# Altium footprint library Zilog Footprints.PcbLib: 33 footprints (part 2 of 3)
Each footprint in its own frame and in the unit in brackets; x right, y up, seen from the top. Pads: shape width x height; smd on the part's side, far side on the other; paste and mask are expansions set on the pad; w line width, h text height; cw(c..) or ccw(c..) is an arc to the next point about the centre after c.
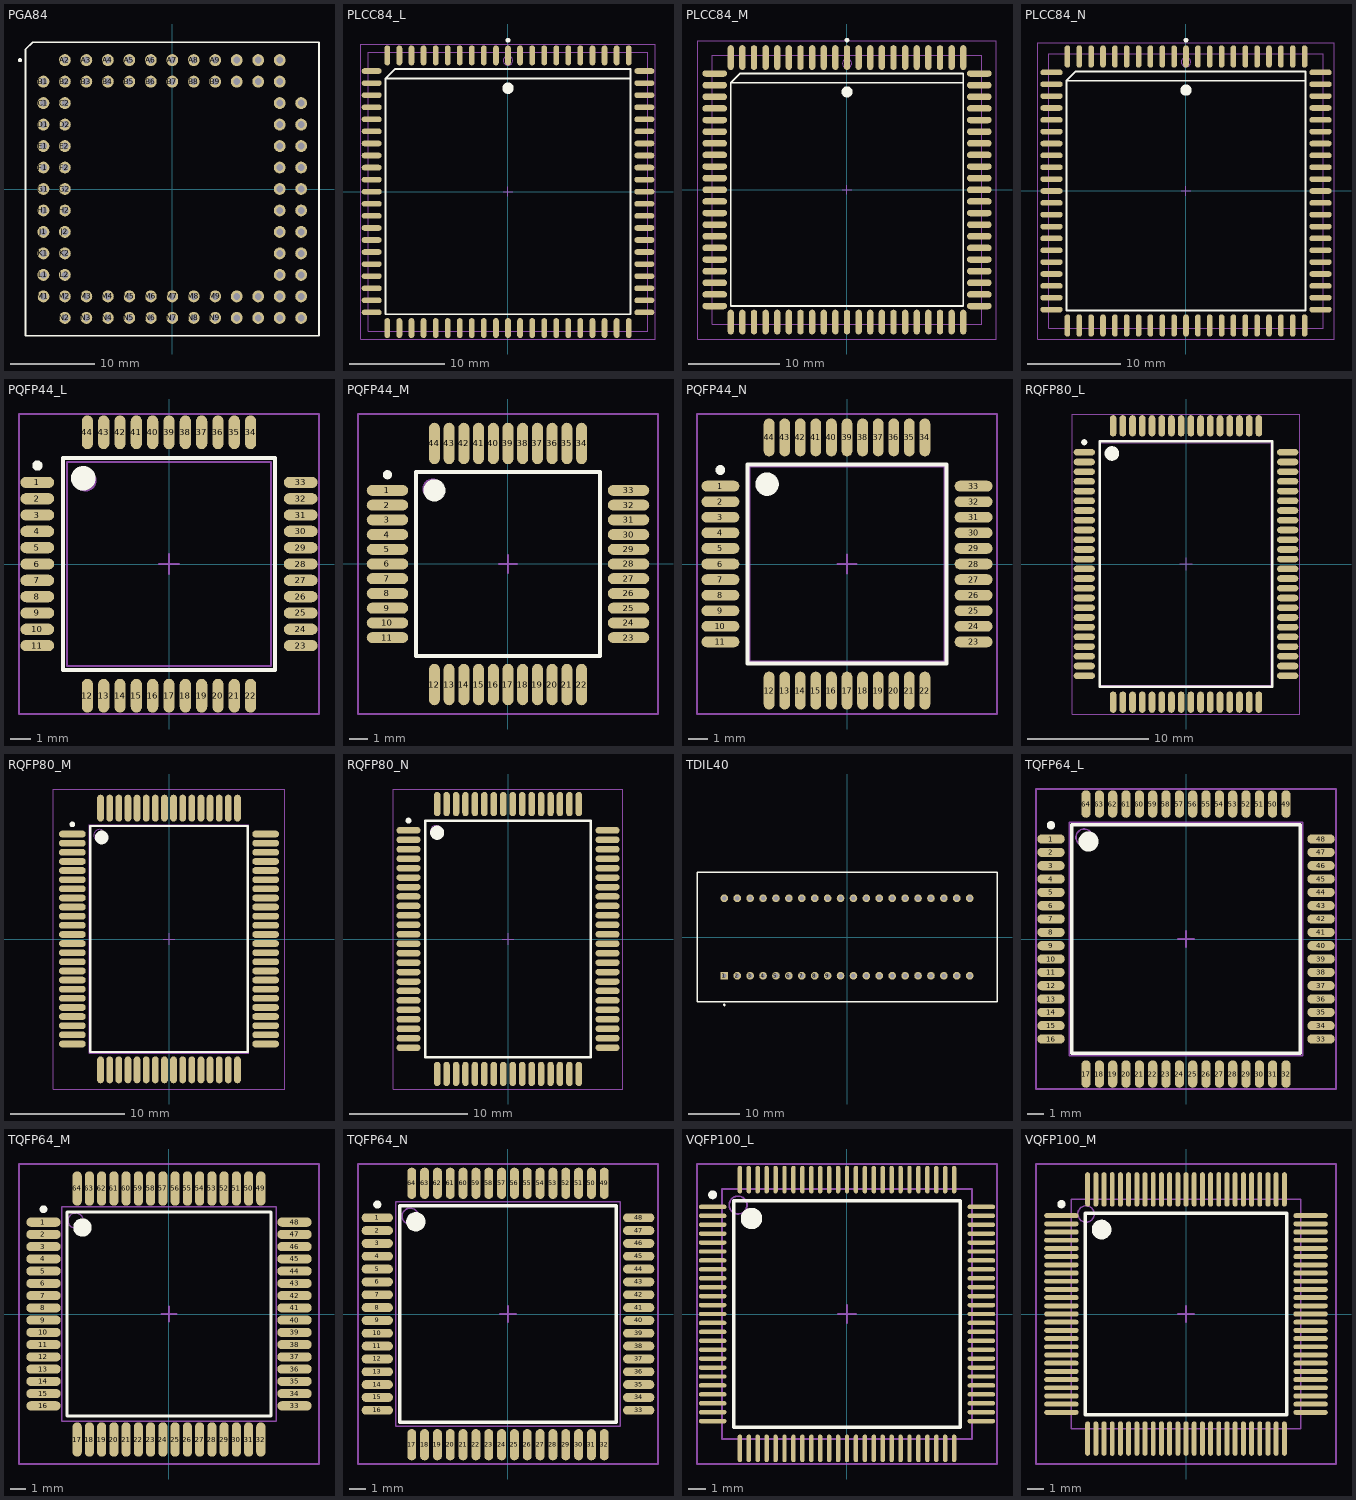
[diagram p1: the footprints below, top view; thin cyan lines are the x and y axes]

## PGA84 [mm] "84-Pin Pin Grid Array 2.54 mm Pitch"
height 3.64
pads (84):
  round 1.4 hole 0.8: A2(-12.7,15.24) A3(-10.16,15.24) A4(-7.62,15.24) A5(-5.08,15.24) A6(-2.54,15.24) A7(0,15.24) A8(2.54,15.24) A9(5.08,15.24) A10(7.62,15.24) A11(10.16,15.24) A12(12.7,15.24) B1(-15.24,12.7) B2(-12.7,12.7) B3(-10.16,12.7) B4(-7.62,12.7) B5(-5.08,12.7) B6(-2.54,12.7) B7(0,12.7) B8(2.54,12.7) B9(5.08,12.7) B10(7.62,12.7) B11(10.16,12.7) B12(12.7,12.7) C1(-15.24,10.16) C2(-12.7,10.16) C12(12.7,10.16) C13(15.24,10.16) D1(-15.24,7.62) D2(-12.7,7.62) D12(12.7,7.62) D13(15.24,7.62) E1(-15.24,5.08) E2(-12.7,5.08) E12(12.7,5.08) E13(15.24,5.08) F1(-15.24,2.54) F2(-12.7,2.54) F12(12.7,2.54) F13(15.24,2.54) G1(-15.24,0) G2(-12.7,0) G12(12.7,0) G13(15.24,0) H1(-15.24,-2.54) H2(-12.7,-2.54) H12(12.7,-2.54) H13(15.24,-2.54) J1(-15.24,-5.08) J2(-12.7,-5.08) J12(12.7,-5.08) J13(15.24,-5.08) K1(-15.24,-7.62) K2(-12.7,-7.62) K12(12.7,-7.62) K13(15.24,-7.62) L1(-15.24,-10.16) L2(-12.7,-10.16) L12(12.7,-10.16) L13(15.24,-10.16) M1(-15.24,-12.7) M2(-12.7,-12.7) M3(-10.16,-12.7) M4(-7.62,-12.7) M5(-5.08,-12.7) M6(-2.54,-12.7) M7(0,-12.7) M8(2.54,-12.7) M9(5.08,-12.7) M10(7.62,-12.7) M11(10.16,-12.7) M12(12.7,-12.7) M13(15.24,-12.7) N2(-12.7,-15.24) N3(-10.16,-15.24) N4(-7.62,-15.24) N5(-5.08,-15.24) N6(-2.54,-15.24) N7(0,-15.24) N8(2.54,-15.24) N9(5.08,-15.24) N10(7.62,-15.24) N11(10.16,-15.24) N12(12.7,-15.24) N13(15.24,-15.24)
Top Overlay:
  circle w0.25: c-18,15.24 r0.125
  lines w0.2: -17.35,-17.35 17.35,-17.35 17.35,17.35 -16.51,17.35 -17.35,16.51 -17.35,-17.35

## PLCC84_L [mm] "84-Pin Leaded Chip Carrier 1.27 mm Pitch, IPC High Density"
height 4.57
pads (84):
  oval 0.6x2.1 smd: 1(0,14.35) 2(-1.27,14.35) 3(-2.54,14.35) 4(-3.81,14.35) 5(-5.08,14.35) 6(-6.35,14.35) 7(-7.62,14.35) 8(-8.89,14.35) 9(-10.16,14.35) 10(-11.43,14.35) 11(-12.7,14.35) 33(-12.7,-14.35) 34(-11.43,-14.35) 35(-10.16,-14.35) 36(-8.89,-14.35) 37(-7.62,-14.35) 38(-6.35,-14.35) 39(-5.08,-14.35) 40(-3.81,-14.35) 41(-2.54,-14.35) 42(-1.27,-14.35) 43(0,-14.35) 44(1.27,-14.35) 45(2.54,-14.35) 46(3.81,-14.35) 47(5.08,-14.35) 48(6.35,-14.35) 49(7.62,-14.35) 50(8.89,-14.35) 51(10.16,-14.35) 52(11.43,-14.35) 53(12.7,-14.35) 75(12.7,14.35) 76(11.43,14.35) 77(10.16,14.35) 78(8.89,14.35) 79(7.62,14.35) 80(6.35,14.35) 81(5.08,14.35) 82(3.81,14.35) 83(2.54,14.35) 84(1.27,14.35)
  oval 2.1x0.6 smd: 12(-14.35,12.7) 13(-14.35,11.43) 14(-14.35,10.16) 15(-14.35,8.89) 16(-14.35,7.62) 17(-14.35,6.35) 18(-14.35,5.08) 19(-14.35,3.81) 20(-14.35,2.54) 21(-14.35,1.27) 22(-14.35,0) 23(-14.35,-1.27) 24(-14.35,-2.54) 25(-14.35,-3.81) 26(-14.35,-5.08) 27(-14.35,-6.35) 28(-14.35,-7.62) 29(-14.35,-8.89) 30(-14.35,-10.16) 31(-14.35,-11.43) 32(-14.35,-12.7) 54(14.35,-12.7) 55(14.35,-11.43) 56(14.35,-10.16) 57(14.35,-8.89) 58(14.35,-7.62) 59(14.35,-6.35) 60(14.35,-5.08) 61(14.35,-3.81) 62(14.35,-2.54) 63(14.35,-1.27) 64(14.35,0) 65(14.35,1.27) 66(14.35,2.54) 67(14.35,3.81) 68(14.35,5.08) 69(14.35,6.35) 70(14.35,7.62) 71(14.35,8.89) 72(14.35,10.16) 73(14.35,11.43) 74(14.35,12.7)
Top Overlay:
  circle w0.25: c0,15.95 r0.125
  circle w0.6: c0,10.9 r0.3
  lines w0.2: 12.9,11.9 -12.9,11.9 ; -12.9,11.9 -11.9,12.9 12.9,12.9 12.9,-12.9 -12.9,-12.9 -12.9,11.9
Mechanical 13:
  circle w0.1: c0,13.805 r0.5
  lines w0.1: -14.705,-14.705 -14.705,14.705 14.705,14.705 14.705,-14.705 -14.705,-14.705
Mechanical 15:
  lines w0.1: -0.5,0 0.5,0 ; 0,-0.5 0,0.5 ; -15.5,-15.5 -15.5,15.5 15.5,15.5 15.5,-15.5 -15.5,-15.5
3D body: height 4.57, standoff 0, extent -14.705,-14.705 14.705,14.705

## PLCC84_M [mm] "84-Pin Leaded Chip Carrier 1.27 mm Pitch, IPC Low Density"
height 4.57
pads (84):
  oval 0.7x2.7 smd: 1(0,14.45) 2(-1.27,14.45) 3(-2.54,14.45) 4(-3.81,14.45) 5(-5.08,14.45) 6(-6.35,14.45) 7(-7.62,14.45) 8(-8.89,14.45) 9(-10.16,14.45) 10(-11.43,14.45) 11(-12.7,14.45) 33(-12.7,-14.45) 34(-11.43,-14.45) 35(-10.16,-14.45) 36(-8.89,-14.45) 37(-7.62,-14.45) 38(-6.35,-14.45) 39(-5.08,-14.45) 40(-3.81,-14.45) 41(-2.54,-14.45) 42(-1.27,-14.45) 43(0,-14.45) 44(1.27,-14.45) 45(2.54,-14.45) 46(3.81,-14.45) 47(5.08,-14.45) 48(6.35,-14.45) 49(7.62,-14.45) 50(8.89,-14.45) 51(10.16,-14.45) 52(11.43,-14.45) 53(12.7,-14.45) 75(12.7,14.45) 76(11.43,14.45) 77(10.16,14.45) 78(8.89,14.45) 79(7.62,14.45) 80(6.35,14.45) 81(5.08,14.45) 82(3.81,14.45) 83(2.54,14.45) 84(1.27,14.45)
  oval 2.7x0.7 smd: 12(-14.45,12.7) 13(-14.45,11.43) 14(-14.45,10.16) 15(-14.45,8.89) 16(-14.45,7.62) 17(-14.45,6.35) 18(-14.45,5.08) 19(-14.45,3.81) 20(-14.45,2.54) 21(-14.45,1.27) 22(-14.45,0) 23(-14.45,-1.27) 24(-14.45,-2.54) 25(-14.45,-3.81) 26(-14.45,-5.08) 27(-14.45,-6.35) 28(-14.45,-7.62) 29(-14.45,-8.89) 30(-14.45,-10.16) 31(-14.45,-11.43) 32(-14.45,-12.7) 54(14.45,-12.7) 55(14.45,-11.43) 56(14.45,-10.16) 57(14.45,-8.89) 58(14.45,-7.62) 59(14.45,-6.35) 60(14.45,-5.08) 61(14.45,-3.81) 62(14.45,-2.54) 63(14.45,-1.27) 64(14.45,0) 65(14.45,1.27) 66(14.45,2.54) 67(14.45,3.81) 68(14.45,5.08) 69(14.45,6.35) 70(14.45,7.62) 71(14.45,8.89) 72(14.45,10.16) 73(14.45,11.43) 74(14.45,12.7)
Top Overlay:
  circle w0.25: c0,16.35 r0.125
  circle w0.6: c0,10.7 r0.3
  lines w0.2: 12.7,11.7 -12.7,11.7 ; -12.7,11.7 -11.7,12.7 12.7,12.7 12.7,-12.7 -12.7,-12.7 -12.7,11.7
Mechanical 13:
  circle w0.1: c0,13.805 r0.5
  lines w0.1: -14.705,-14.705 -14.705,14.705 14.705,14.705 14.705,-14.705 -14.705,-14.705
Mechanical 15:
  lines w0.1: -0.5,0 0.5,0 ; 0,-0.5 0,0.5 ; -16.3,-16.3 -16.3,16.3 16.3,16.3 16.3,-16.3 -16.3,-16.3
3D body: height 4.57, standoff 0, extent -14.705,-14.705 14.705,14.705

## PLCC84_N [mm] "84-Pin Leaded Chip Carrier 1.27 mm Pitch, IPC Medium Density"
height 4.57
pads (84):
  oval 0.6x2.4 smd: 1(0,14.4) 2(-1.27,14.4) 3(-2.54,14.4) 4(-3.81,14.4) 5(-5.08,14.4) 6(-6.35,14.4) 7(-7.62,14.4) 8(-8.89,14.4) 9(-10.16,14.4) 10(-11.43,14.4) 11(-12.7,14.4) 33(-12.7,-14.4) 34(-11.43,-14.4) 35(-10.16,-14.4) 36(-8.89,-14.4) 37(-7.62,-14.4) 38(-6.35,-14.4) 39(-5.08,-14.4) 40(-3.81,-14.4) 41(-2.54,-14.4) 42(-1.27,-14.4) 43(0,-14.4) 44(1.27,-14.4) 45(2.54,-14.4) 46(3.81,-14.4) 47(5.08,-14.4) 48(6.35,-14.4) 49(7.62,-14.4) 50(8.89,-14.4) 51(10.16,-14.4) 52(11.43,-14.4) 53(12.7,-14.4) 75(12.7,14.4) 76(11.43,14.4) 77(10.16,14.4) 78(8.89,14.4) 79(7.62,14.4) 80(6.35,14.4) 81(5.08,14.4) 82(3.81,14.4) 83(2.54,14.4) 84(1.27,14.4)
  oval 2.4x0.6 smd: 12(-14.4,12.7) 13(-14.4,11.43) 14(-14.4,10.16) 15(-14.4,8.89) 16(-14.4,7.62) 17(-14.4,6.35) 18(-14.4,5.08) 19(-14.4,3.81) 20(-14.4,2.54) 21(-14.4,1.27) 22(-14.4,0) 23(-14.4,-1.27) 24(-14.4,-2.54) 25(-14.4,-3.81) 26(-14.4,-5.08) 27(-14.4,-6.35) 28(-14.4,-7.62) 29(-14.4,-8.89) 30(-14.4,-10.16) 31(-14.4,-11.43) 32(-14.4,-12.7) 54(14.4,-12.7) 55(14.4,-11.43) 56(14.4,-10.16) 57(14.4,-8.89) 58(14.4,-7.62) 59(14.4,-6.35) 60(14.4,-5.08) 61(14.4,-3.81) 62(14.4,-2.54) 63(14.4,-1.27) 64(14.4,0) 65(14.4,1.27) 66(14.4,2.54) 67(14.4,3.81) 68(14.4,5.08) 69(14.4,6.35) 70(14.4,7.62) 71(14.4,8.89) 72(14.4,10.16) 73(14.4,11.43) 74(14.4,12.7)
Top Overlay:
  circle w0.25: c0,16.15 r0.125
  circle w0.6: c0,10.8 r0.3
  lines w0.2: 12.8,11.8 -12.8,11.8 ; -12.8,11.8 -11.8,12.8 12.8,12.8 12.8,-12.8 -12.8,-12.8 -12.8,11.8
Mechanical 13:
  circle w0.1: c0,13.805 r0.5
  lines w0.1: -14.705,-14.705 -14.705,14.705 14.705,14.705 14.705,-14.705 -14.705,-14.705
Mechanical 15:
  lines w0.1: -0.5,0 0.5,0 ; 0,-0.5 0,0.5 ; -15.85,-15.85 -15.85,15.85 15.85,15.85 15.85,-15.85 -15.85,-15.85
3D body: height 4.57, standoff 0, extent -14.705,-14.705 14.705,14.705

## PQFP44_L [mm] "44-Pin Quad Flat Pack 0.8 mm Pitch, IPC High Density"
height 2.5
pads (44):
  oval 1.65x0.55 smd: 1(-6.45,4) 2(-6.45,3.2) 3(-6.45,2.4) 4(-6.45,1.6) 5(-6.45,0.8) 6(-6.45,0) 7(-6.45,-0.8) 8(-6.45,-1.6) 9(-6.45,-2.4) 10(-6.45,-3.2) 11(-6.45,-4) 23(6.45,-4) 24(6.45,-3.2) 25(6.45,-2.4) 26(6.45,-1.6) 27(6.45,-0.8) 28(6.45,0) 29(6.45,0.8) 30(6.45,1.6) 31(6.45,2.4) 32(6.45,3.2) 33(6.45,4)
  oval 0.55x1.65 smd: 12(-4,-6.45) 13(-3.2,-6.45) 14(-2.4,-6.45) 15(-1.6,-6.45) 16(-0.8,-6.45) 17(0,-6.45) 18(0.8,-6.45) 19(1.6,-6.45) 20(2.4,-6.45) 21(3.2,-6.45) 22(4,-6.45) 34(4,6.45) 35(3.2,6.45) 36(2.4,6.45) 37(1.6,6.45) 38(0.8,6.45) 39(0,6.45) 40(-0.8,6.45) 41(-1.6,6.45) 42(-2.4,6.45) 43(-3.2,6.45) 44(-4,6.45)
Top Overlay:
  circle w0.6: c-4.2,4.2 r0.3
  circle w0.25: c-6.45,4.825 r0.125
  lines w0.2: -5.2,-5.2 5.2,-5.2 5.2,5.2 -5.2,5.2 -5.2,-5.2
Mechanical 13:
  circle w0.1: c-4.1,4.1 r0.5
  lines w0.1: -5,-5 5,-5 5,5 -5,5 -5,-5
Mechanical 15:
  lines w0.1: -0.5,0 0.5,0 ; 0,-0.5 0,0.5 ; -7.35,-7.35 7.35,-7.35 7.35,7.35 -7.35,7.35 -7.35,-7.35
3D body: height 2.5, standoff 0, extent -5,-5 5,5

## PQFP44_M [mm] "44-Pin Quad Flat Pack 0.8 mm Pitch, IPC Low Density"
height 2.5
pads (44):
  oval 2.25x0.6 smd: 1(-6.55,4) 2(-6.55,3.2) 3(-6.55,2.4) 4(-6.55,1.6) 5(-6.55,0.8) 6(-6.55,0) 7(-6.55,-0.8) 8(-6.55,-1.6) 9(-6.55,-2.4) 10(-6.55,-3.2) 11(-6.55,-4) 23(6.55,-4) 24(6.55,-3.2) 25(6.55,-2.4) 26(6.55,-1.6) 27(6.55,-0.8) 28(6.55,0) 29(6.55,0.8) 30(6.55,1.6) 31(6.55,2.4) 32(6.55,3.2) 33(6.55,4)
  oval 0.6x2.25 smd: 12(-4,-6.55) 13(-3.2,-6.55) 14(-2.4,-6.55) 15(-1.6,-6.55) 16(-0.8,-6.55) 17(0,-6.55) 18(0.8,-6.55) 19(1.6,-6.55) 20(2.4,-6.55) 21(3.2,-6.55) 22(4,-6.55) 34(4,6.55) 35(3.2,6.55) 36(2.4,6.55) 37(1.6,6.55) 38(0.8,6.55) 39(0,6.55) 40(-0.8,6.55) 41(-1.6,6.55) 42(-2.4,6.55) 43(-3.2,6.55) 44(-4,6.55)
Top Overlay:
  circle w0.6: c-4,4 r0.3
  circle w0.25: c-6.55,4.85 r0.125
  lines w0.2: -5,-5 5,-5 5,5 -5,5 -5,-5
Mechanical 13:
  circle w0.1: c-4.1,4.1 r0.5
  lines w0.1: -5,-5 5,-5 5,5 -5,5 -5,-5
Mechanical 15:
  lines w0.1: -0.5,0 0.5,0 ; 0,-0.5 0,0.5 ; -8.15,-8.15 8.15,-8.15 8.15,8.15 -8.15,8.15 -8.15,-8.15
3D body: height 2.5, standoff 0, extent -5,-5 5,5

## PQFP44_N [mm] "44-Pin Quad Flat Pack 0.8 mm Pitch, IPC Medium Density"
height 2.5
pads (44):
  oval 1.95x0.55 smd: 1(-6.5,4) 2(-6.5,3.2) 3(-6.5,2.4) 4(-6.5,1.6) 5(-6.5,0.8) 6(-6.5,0) 7(-6.5,-0.8) 8(-6.5,-1.6) 9(-6.5,-2.4) 10(-6.5,-3.2) 11(-6.5,-4) 23(6.5,-4) 24(6.5,-3.2) 25(6.5,-2.4) 26(6.5,-1.6) 27(6.5,-0.8) 28(6.5,0) 29(6.5,0.8) 30(6.5,1.6) 31(6.5,2.4) 32(6.5,3.2) 33(6.5,4)
  oval 0.55x1.95 smd: 12(-4,-6.5) 13(-3.2,-6.5) 14(-2.4,-6.5) 15(-1.6,-6.5) 16(-0.8,-6.5) 17(0,-6.5) 18(0.8,-6.5) 19(1.6,-6.5) 20(2.4,-6.5) 21(3.2,-6.5) 22(4,-6.5) 34(4,6.5) 35(3.2,6.5) 36(2.4,6.5) 37(1.6,6.5) 38(0.8,6.5) 39(0,6.5) 40(-0.8,6.5) 41(-1.6,6.5) 42(-2.4,6.5) 43(-3.2,6.5) 44(-4,6.5)
Top Overlay:
  circle w0.6: c-4.1,4.1 r0.3
  circle w0.25: c-6.5,4.825 r0.125
  lines w0.2: -5.1,-5.1 5.1,-5.1 5.1,5.1 -5.1,5.1 -5.1,-5.1
Mechanical 13:
  circle w0.1: c-4.1,4.1 r0.5
  lines w0.1: -5,-5 5,-5 5,5 -5,5 -5,-5
Mechanical 15:
  lines w0.1: -0.5,0 0.5,0 ; 0,-0.5 0,0.5 ; -7.7,-7.7 7.7,-7.7 7.7,7.7 -7.7,7.7 -7.7,-7.7
3D body: height 2.5, standoff 0, extent -5,-5 5,5

## RQFP80_L [mm] "80-Pin Quad Flat Pack Rectangular 0.8 mm Pitch, IPC High Density"
height 3.05
pads (80):
  oval 1.75x0.55 smd: 1(-8.375,9.2) 2(-8.375,8.4) 3(-8.375,7.6) 4(-8.375,6.8) 5(-8.375,6) 6(-8.375,5.2) 7(-8.375,4.4) 8(-8.375,3.6) 9(-8.375,2.8) 10(-8.375,2) 11(-8.375,1.2) 12(-8.375,0.4) 13(-8.375,-0.4) 14(-8.375,-1.2) 15(-8.375,-2) 16(-8.375,-2.8) 17(-8.375,-3.6) 18(-8.375,-4.4) 19(-8.375,-5.2) 20(-8.375,-6) 21(-8.375,-6.8) 22(-8.375,-7.6) 23(-8.375,-8.4) 24(-8.375,-9.2) 41(8.375,-9.2) 42(8.375,-8.4) 43(8.375,-7.6) 44(8.375,-6.8) 45(8.375,-6) 46(8.375,-5.2) 47(8.375,-4.4) 48(8.375,-3.6) 49(8.375,-2.8) 50(8.375,-2) 51(8.375,-1.2) 52(8.375,-0.4) 53(8.375,0.4) 54(8.375,1.2) 55(8.375,2) 56(8.375,2.8) 57(8.375,3.6) 58(8.375,4.4) 59(8.375,5.2) 60(8.375,6) 61(8.375,6.8) 62(8.375,7.6) 63(8.375,8.4) 64(8.375,9.2)
  oval 0.55x1.75 smd: 25(-6,-11.375) 26(-5.2,-11.375) 27(-4.4,-11.375) 28(-3.6,-11.375) 29(-2.8,-11.375) 30(-2,-11.375) 31(-1.2,-11.375) 32(-0.4,-11.375) 33(0.4,-11.375) 34(1.2,-11.375) 35(2,-11.375) 36(2.8,-11.375) 37(3.6,-11.375) 38(4.4,-11.375) 39(5.2,-11.375) 40(6,-11.375) 65(6,11.375) 66(5.2,11.375) 67(4.4,11.375) 68(3.6,11.375) 69(2.8,11.375) 70(2,11.375) 71(1.2,11.375) 72(0.4,11.375) 73(-0.4,11.375) 74(-1.2,11.375) 75(-2,11.375) 76(-2.8,11.375) 77(-3.6,11.375) 78(-4.4,11.375) 79(-5.2,11.375) 80(-6,11.375)
Top Overlay:
  circle w0.6: c-6.1,9.1 r0.3
  circle w0.25: c-8.375,10.025 r0.125
  lines w0.2: -7.1,-10.1 7.1,-10.1 7.1,10.1 -7.1,10.1 -7.1,-10.1
Mechanical 13:
  circle w0.1: c-6.1,9.1 r0.5
  lines w0.1: -7,-10 7,-10 7,10 -7,10 -7,-10
Mechanical 15:
  lines w0.1: -0.5,0 0.5,0 ; 0,-0.5 0,0.5 ; -9.35,-12.35 9.35,-12.35 9.35,12.35 -9.35,12.35 -9.35,-12.35
3D body: height 3.05, standoff 0, extent -7,-10 7,10

## RQFP80_M [mm] "80-Pin Quad Flat Pack Rectangular 0.8 mm Pitch, IPC Low Density"
height 3.05
pads (80):
  oval 2.35x0.6 smd: 1(-8.475,9.2) 2(-8.475,8.4) 3(-8.475,7.6) 4(-8.475,6.8) 5(-8.475,6) 6(-8.475,5.2) 7(-8.475,4.4) 8(-8.475,3.6) 9(-8.475,2.8) 10(-8.475,2) 11(-8.475,1.2) 12(-8.475,0.4) 13(-8.475,-0.4) 14(-8.475,-1.2) 15(-8.475,-2) 16(-8.475,-2.8) 17(-8.475,-3.6) 18(-8.475,-4.4) 19(-8.475,-5.2) 20(-8.475,-6) 21(-8.475,-6.8) 22(-8.475,-7.6) 23(-8.475,-8.4) 24(-8.475,-9.2) 41(8.475,-9.2) 42(8.475,-8.4) 43(8.475,-7.6) 44(8.475,-6.8) 45(8.475,-6) 46(8.475,-5.2) 47(8.475,-4.4) 48(8.475,-3.6) 49(8.475,-2.8) 50(8.475,-2) 51(8.475,-1.2) 52(8.475,-0.4) 53(8.475,0.4) 54(8.475,1.2) 55(8.475,2) 56(8.475,2.8) 57(8.475,3.6) 58(8.475,4.4) 59(8.475,5.2) 60(8.475,6) 61(8.475,6.8) 62(8.475,7.6) 63(8.475,8.4) 64(8.475,9.2)
  oval 0.6x2.35 smd: 25(-6,-11.475) 26(-5.2,-11.475) 27(-4.4,-11.475) 28(-3.6,-11.475) 29(-2.8,-11.475) 30(-2,-11.475) 31(-1.2,-11.475) 32(-0.4,-11.475) 33(0.4,-11.475) 34(1.2,-11.475) 35(2,-11.475) 36(2.8,-11.475) 37(3.6,-11.475) 38(4.4,-11.475) 39(5.2,-11.475) 40(6,-11.475) 65(6,11.475) 66(5.2,11.475) 67(4.4,11.475) 68(3.6,11.475) 69(2.8,11.475) 70(2,11.475) 71(1.2,11.475) 72(0.4,11.475) 73(-0.4,11.475) 74(-1.2,11.475) 75(-2,11.475) 76(-2.8,11.475) 77(-3.6,11.475) 78(-4.4,11.475) 79(-5.2,11.475) 80(-6,11.475)
Top Overlay:
  circle w0.25: c-8.475,10.05 r0.125
  circle w0.6: c-5.9,8.9 r0.3
  lines w0.2: -6.9,-9.9 -6.9,9.9 6.9,9.9 6.9,-9.9 -6.9,-9.9
Mechanical 13:
  circle w0.1: c-6.1,9.1 r0.5
  lines w0.1: -7,-10 -7,10 7,10 7,-10 -7,-10
Mechanical 15:
  lines w0.1: -0.5,0 0.5,0 ; 0,-0.5 0,0.5 ; -10.15,-13.15 -10.15,13.15 10.15,13.15 10.15,-13.15 -10.15,-13.15
3D body: height 3.05, standoff 0, extent -7,-10 7,10

## RQFP80_N [mm] "80-Pin Quad Flat Pack Rectangular 0.8 mm Pitch, IPC Medium Density"
height 3.05
pads (80):
  oval 2.05x0.55 smd: 1(-8.425,9.2) 2(-8.425,8.4) 3(-8.425,7.6) 4(-8.425,6.8) 5(-8.425,6) 6(-8.425,5.2) 7(-8.425,4.4) 8(-8.425,3.6) 9(-8.425,2.8) 10(-8.425,2) 11(-8.425,1.2) 12(-8.425,0.4) 13(-8.425,-0.4) 14(-8.425,-1.2) 15(-8.425,-2) 16(-8.425,-2.8) 17(-8.425,-3.6) 18(-8.425,-4.4) 19(-8.425,-5.2) 20(-8.425,-6) 21(-8.425,-6.8) 22(-8.425,-7.6) 23(-8.425,-8.4) 24(-8.425,-9.2) 41(8.425,-9.2) 42(8.425,-8.4) 43(8.425,-7.6) 44(8.425,-6.8) 45(8.425,-6) 46(8.425,-5.2) 47(8.425,-4.4) 48(8.425,-3.6) 49(8.425,-2.8) 50(8.425,-2) 51(8.425,-1.2) 52(8.425,-0.4) 53(8.425,0.4) 54(8.425,1.2) 55(8.425,2) 56(8.425,2.8) 57(8.425,3.6) 58(8.425,4.4) 59(8.425,5.2) 60(8.425,6) 61(8.425,6.8) 62(8.425,7.6) 63(8.425,8.4) 64(8.425,9.2)
  oval 0.55x2.05 smd: 25(-6,-11.425) 26(-5.2,-11.425) 27(-4.4,-11.425) 28(-3.6,-11.425) 29(-2.8,-11.425) 30(-2,-11.425) 31(-1.2,-11.425) 32(-0.4,-11.425) 33(0.4,-11.425) 34(1.2,-11.425) 35(2,-11.425) 36(2.8,-11.425) 37(3.6,-11.425) 38(4.4,-11.425) 39(5.2,-11.425) 40(6,-11.425) 65(6,11.425) 66(5.2,11.425) 67(4.4,11.425) 68(3.6,11.425) 69(2.8,11.425) 70(2,11.425) 71(1.2,11.425) 72(0.4,11.425) 73(-0.4,11.425) 74(-1.2,11.425) 75(-2,11.425) 76(-2.8,11.425) 77(-3.6,11.425) 78(-4.4,11.425) 79(-5.2,11.425) 80(-6,11.425)
Top Overlay:
  circle w0.6: c-6,9 r0.3
  circle w0.25: c-8.425,10.025 r0.125
  lines w0.2: -7,-10 7,-10 7,10 -7,10 -7,-10
Mechanical 13:
  circle w0.1: c-6.1,9.1 r0.5
  lines w0.1: -7,-10 7,-10 7,10 -7,10 -7,-10
Mechanical 15:
  lines w0.1: -0.5,0 0.5,0 ; 0,-0.5 0,0.5 ; -9.7,-12.7 9.7,-12.7 9.7,12.7 -9.7,12.7 -9.7,-12.7
3D body: height 3.05, standoff 0, extent -7,-10 7,10

## TDIL40 [mm] "DIP; 40 Round Pins; Row Space 15.24 mm; Pitch 2.54 mm"
height 6.23
pads (40):
  rect 1.5x1.5 hole 0.9: 1(-24.13,-7.62)
  round 1.5 hole 0.9: 2(-21.59,-7.62) 3(-19.05,-7.62) 4(-16.51,-7.62) 5(-13.97,-7.62) 6(-11.43,-7.62) 7(-8.89,-7.62) 8(-6.35,-7.62) 9(-3.81,-7.62) 10(-1.27,-7.62) 11(1.27,-7.62) 12(3.81,-7.62) 13(6.35,-7.62) 14(8.89,-7.62) 15(11.43,-7.62) 16(13.97,-7.62) 17(16.51,-7.62) 18(19.05,-7.62) 19(21.59,-7.62) 20(24.13,-7.62) 21(24.13,7.62) 22(21.59,7.62) 23(19.05,7.62) 24(16.51,7.62) 25(13.97,7.62) 26(11.43,7.62) 27(8.89,7.62) 28(6.35,7.62) 29(3.81,7.62) 30(1.27,7.62) 31(-1.27,7.62) 32(-3.81,7.62) 33(-6.35,7.62) 34(-8.89,7.62) 35(-11.43,7.62) 36(-13.97,7.62) 37(-16.51,7.62) 38(-19.05,7.62) 39(-21.59,7.62) 40(-24.13,7.62)
Top Overlay:
  circle w0.25: c-24.13,-13.35 r0.125
  lines w0.25: -29.5,-12.7 29.5,-12.7 29.5,12.7 -29.5,12.7 -29.5,-12.7

## TQFP64_L [mm] "64-Pin Quad Flat Pack 0.8 mm Pitch, IPC High Density"
height 3.3
pads (64):
  oval 1.65x0.55 smd: 1(-8.1,6) 2(-8.1,5.2) 3(-8.1,4.4) 4(-8.1,3.6) 5(-8.1,2.8) 6(-8.1,2) 7(-8.1,1.2) 8(-8.1,0.4) 9(-8.1,-0.4) 10(-8.1,-1.2) 11(-8.1,-2) 12(-8.1,-2.8) 13(-8.1,-3.6) 14(-8.1,-4.4) 15(-8.1,-5.2) 16(-8.1,-6) 33(8.1,-6) 34(8.1,-5.2) 35(8.1,-4.4) 36(8.1,-3.6) 37(8.1,-2.8) 38(8.1,-2) 39(8.1,-1.2) 40(8.1,-0.4) 41(8.1,0.4) 42(8.1,1.2) 43(8.1,2) 44(8.1,2.8) 45(8.1,3.6) 46(8.1,4.4) 47(8.1,5.2) 48(8.1,6)
  oval 0.55x1.65 smd: 17(-6,-8.1) 18(-5.2,-8.1) 19(-4.4,-8.1) 20(-3.6,-8.1) 21(-2.8,-8.1) 22(-2,-8.1) 23(-1.2,-8.1) 24(-0.4,-8.1) 25(0.4,-8.1) 26(1.2,-8.1) 27(2,-8.1) 28(2.8,-8.1) 29(3.6,-8.1) 30(4.4,-8.1) 31(5.2,-8.1) 32(6,-8.1) 49(6,8.1) 50(5.2,8.1) 51(4.4,8.1) 52(3.6,8.1) 53(2.8,8.1) 54(2,8.1) 55(1.2,8.1) 56(0.4,8.1) 57(-0.4,8.1) 58(-1.2,8.1) 59(-2,8.1) 60(-2.8,8.1) 61(-3.6,8.1) 62(-4.4,8.1) 63(-5.2,8.1) 64(-6,8.1)
Top Overlay:
  circle w0.6: c-5.85,5.85 r0.3
  circle w0.25: c-8.1,6.825 r0.125
  lines w0.2: -6.85,-6.85 6.85,-6.85 6.85,6.85 -6.85,6.85 -6.85,-6.85
Mechanical 13:
  circle w0.1: c-6.1,6.1 r0.5
  lines w0.1: -7,-7 7,-7 7,7 -7,7 -7,-7
Mechanical 15:
  lines w0.1: -0.5,0 0.5,0 ; 0,-0.5 0,0.5 ; -9,-9 9,-9 9,9 -9,9 -9,-9
3D body: height 3.3, standoff 0, extent -7,-7 7,7

## TQFP64_M [mm] "64-Pin Quad Flat Pack 0.8 mm Pitch, IPC Low Density"
height 3.3
pads (64):
  oval 2.25x0.6 smd: 1(-8.2,6) 2(-8.2,5.2) 3(-8.2,4.4) 4(-8.2,3.6) 5(-8.2,2.8) 6(-8.2,2) 7(-8.2,1.2) 8(-8.2,0.4) 9(-8.2,-0.4) 10(-8.2,-1.2) 11(-8.2,-2) 12(-8.2,-2.8) 13(-8.2,-3.6) 14(-8.2,-4.4) 15(-8.2,-5.2) 16(-8.2,-6) 33(8.2,-6) 34(8.2,-5.2) 35(8.2,-4.4) 36(8.2,-3.6) 37(8.2,-2.8) 38(8.2,-2) 39(8.2,-1.2) 40(8.2,-0.4) 41(8.2,0.4) 42(8.2,1.2) 43(8.2,2) 44(8.2,2.8) 45(8.2,3.6) 46(8.2,4.4) 47(8.2,5.2) 48(8.2,6)
  oval 0.6x2.25 smd: 17(-6,-8.2) 18(-5.2,-8.2) 19(-4.4,-8.2) 20(-3.6,-8.2) 21(-2.8,-8.2) 22(-2,-8.2) 23(-1.2,-8.2) 24(-0.4,-8.2) 25(0.4,-8.2) 26(1.2,-8.2) 27(2,-8.2) 28(2.8,-8.2) 29(3.6,-8.2) 30(4.4,-8.2) 31(5.2,-8.2) 32(6,-8.2) 49(6,8.2) 50(5.2,8.2) 51(4.4,8.2) 52(3.6,8.2) 53(2.8,8.2) 54(2,8.2) 55(1.2,8.2) 56(0.4,8.2) 57(-0.4,8.2) 58(-1.2,8.2) 59(-2,8.2) 60(-2.8,8.2) 61(-3.6,8.2) 62(-4.4,8.2) 63(-5.2,8.2) 64(-6,8.2)
Top Overlay:
  circle w0.6: c-5.65,5.65 r0.3
  circle w0.25: c-8.2,6.85 r0.125
  lines w0.2: -6.65,-6.65 6.65,-6.65 6.65,6.65 -6.65,6.65 -6.65,-6.65
Mechanical 13:
  circle w0.1: c-6.1,6.1 r0.5
  lines w0.1: -7,-7 7,-7 7,7 -7,7 -7,-7
Mechanical 15:
  lines w0.1: -0.5,0 0.5,0 ; 0,-0.5 0,0.5 ; -9.8,-9.8 9.8,-9.8 9.8,9.8 -9.8,9.8 -9.8,-9.8
3D body: height 3.3, standoff 0, extent -7,-7 7,7

## TQFP64_N [mm] "64-Pin Quad Flat Pack 0.8 mm Pitch, IPC Medium Density"
height 3.3
pads (64):
  oval 1.95x0.55 smd: 1(-8.15,6) 2(-8.15,5.2) 3(-8.15,4.4) 4(-8.15,3.6) 5(-8.15,2.8) 6(-8.15,2) 7(-8.15,1.2) 8(-8.15,0.4) 9(-8.15,-0.4) 10(-8.15,-1.2) 11(-8.15,-2) 12(-8.15,-2.8) 13(-8.15,-3.6) 14(-8.15,-4.4) 15(-8.15,-5.2) 16(-8.15,-6) 33(8.15,-6) 34(8.15,-5.2) 35(8.15,-4.4) 36(8.15,-3.6) 37(8.15,-2.8) 38(8.15,-2) 39(8.15,-1.2) 40(8.15,-0.4) 41(8.15,0.4) 42(8.15,1.2) 43(8.15,2) 44(8.15,2.8) 45(8.15,3.6) 46(8.15,4.4) 47(8.15,5.2) 48(8.15,6)
  oval 0.55x1.95 smd: 17(-6,-8.15) 18(-5.2,-8.15) 19(-4.4,-8.15) 20(-3.6,-8.15) 21(-2.8,-8.15) 22(-2,-8.15) 23(-1.2,-8.15) 24(-0.4,-8.15) 25(0.4,-8.15) 26(1.2,-8.15) 27(2,-8.15) 28(2.8,-8.15) 29(3.6,-8.15) 30(4.4,-8.15) 31(5.2,-8.15) 32(6,-8.15) 49(6,8.15) 50(5.2,8.15) 51(4.4,8.15) 52(3.6,8.15) 53(2.8,8.15) 54(2,8.15) 55(1.2,8.15) 56(0.4,8.15) 57(-0.4,8.15) 58(-1.2,8.15) 59(-2,8.15) 60(-2.8,8.15) 61(-3.6,8.15) 62(-4.4,8.15) 63(-5.2,8.15) 64(-6,8.15)
Top Overlay:
  circle w0.6: c-5.75,5.75 r0.3
  circle w0.25: c-8.15,6.825 r0.125
  lines w0.2: -6.75,-6.75 6.75,-6.75 6.75,6.75 -6.75,6.75 -6.75,-6.75
Mechanical 13:
  circle w0.1: c-6.1,6.1 r0.5
  lines w0.1: -7,-7 7,-7 7,7 -7,7 -7,-7
Mechanical 15:
  lines w0.1: -0.5,0 0.5,0 ; 0,-0.5 0,0.5 ; -9.35,-9.35 9.35,-9.35 9.35,9.35 -9.35,9.35 -9.35,-9.35
3D body: height 3.3, standoff 0, extent -7,-7 7,7

## VQFP100_L [mm] "100-Pin Thin Quad Flat Pack 0.5 mm Pitch, IPC High Density"
height 1.6
pads (100):
  oval 1.55x0.25 smd: 1(-7.525,6) 2(-7.525,5.5) 3(-7.525,5) 4(-7.525,4.5) 5(-7.525,4) 6(-7.525,3.5) 7(-7.525,3) 8(-7.525,2.5) 9(-7.525,2) 10(-7.525,1.5) 11(-7.525,1) 12(-7.525,0.5) 13(-7.525,0) 14(-7.525,-0.5) 15(-7.525,-1) 16(-7.525,-1.5) 17(-7.525,-2) 18(-7.525,-2.5) 19(-7.525,-3) 20(-7.525,-3.5) 21(-7.525,-4) 22(-7.525,-4.5) 23(-7.525,-5) 24(-7.525,-5.5) 25(-7.525,-6) 51(7.525,-6) 52(7.525,-5.5) 53(7.525,-5) 54(7.525,-4.5) 55(7.525,-4) 56(7.525,-3.5) 57(7.525,-3) 58(7.525,-2.5) 59(7.525,-2) 60(7.525,-1.5) 61(7.525,-1) 62(7.525,-0.5) 63(7.525,0) 64(7.525,0.5) 65(7.525,1) 66(7.525,1.5) 67(7.525,2) 68(7.525,2.5) 69(7.525,3) 70(7.525,3.5) 71(7.525,4) 72(7.525,4.5) 73(7.525,5) 74(7.525,5.5) 75(7.525,6)
  oval 0.25x1.55 smd: 26(-6,-7.525) 27(-5.5,-7.525) 28(-5,-7.525) 29(-4.5,-7.525) 30(-4,-7.525) 31(-3.5,-7.525) 32(-3,-7.525) 33(-2.5,-7.525) 34(-2,-7.525) 35(-1.5,-7.525) 36(-1,-7.525) 37(-0.5,-7.525) 38(0,-7.525) 39(0.5,-7.525) 40(1,-7.525) 41(1.5,-7.525) 42(2,-7.525) 43(2.5,-7.525) 44(3,-7.525) 45(3.5,-7.525) 46(4,-7.525) 47(4.5,-7.525) 48(5,-7.525) 49(5.5,-7.525) 50(6,-7.525) 76(6,7.525) 77(5.5,7.525) 78(5,7.525) 79(4.5,7.525) 80(4,7.525) 81(3.5,7.525) 82(3,7.525) 83(2.5,7.525) 84(2,7.525) 85(1.5,7.525) 86(1,7.525) 87(0.5,7.525) 88(0,7.525) 89(-0.5,7.525) 90(-1,7.525) 91(-1.5,7.525) 92(-2,7.525) 93(-2.5,7.525) 94(-3,7.525) 95(-3.5,7.525) 96(-4,7.525) 97(-4.5,7.525) 98(-5,7.525) 99(-5.5,7.525) 100(-6,7.525)
Top Overlay:
  circle w0.6: c-5.35,5.35 r0.3
  circle w0.25: c-7.525,6.675 r0.125
  lines w0.2: -6.35,-6.35 6.35,-6.35 6.35,6.35 -6.35,6.35 -6.35,-6.35
Mechanical 13:
  circle w0.1: c-6.1,6.1 r0.5
  lines w0.1: -7,-7 7,-7 7,7 -7,7 -7,-7
Mechanical 15:
  lines w0.1: -0.5,0 0.5,0 ; 0,-0.5 0,0.5 ; -8.4,-8.4 8.4,-8.4 8.4,8.4 -8.4,8.4 -8.4,-8.4
3D body: height 1.6, standoff 0, extent -7,-7 7,7

## VQFP100_M [mm] "100-Pin Thin Quad Flat Pack 0.5 mm Pitch, IPC Low Density"
height 1.6
pads (100):
  oval 2.1x0.3 smd: 1(-7.6,6) 2(-7.6,5.5) 3(-7.6,5) 4(-7.6,4.5) 5(-7.6,4) 6(-7.6,3.5) 7(-7.6,3) 8(-7.6,2.5) 9(-7.6,2) 10(-7.6,1.5) 11(-7.6,1) 12(-7.6,0.5) 13(-7.6,0) 14(-7.6,-0.5) 15(-7.6,-1) 16(-7.6,-1.5) 17(-7.6,-2) 18(-7.6,-2.5) 19(-7.6,-3) 20(-7.6,-3.5) 21(-7.6,-4) 22(-7.6,-4.5) 23(-7.6,-5) 24(-7.6,-5.5) 25(-7.6,-6) 51(7.6,-6) 52(7.6,-5.5) 53(7.6,-5) 54(7.6,-4.5) 55(7.6,-4) 56(7.6,-3.5) 57(7.6,-3) 58(7.6,-2.5) 59(7.6,-2) 60(7.6,-1.5) 61(7.6,-1) 62(7.6,-0.5) 63(7.6,0) 64(7.6,0.5) 65(7.6,1) 66(7.6,1.5) 67(7.6,2) 68(7.6,2.5) 69(7.6,3) 70(7.6,3.5) 71(7.6,4) 72(7.6,4.5) 73(7.6,5) 74(7.6,5.5) 75(7.6,6)
  oval 0.3x2.1 smd: 26(-6,-7.6) 27(-5.5,-7.6) 28(-5,-7.6) 29(-4.5,-7.6) 30(-4,-7.6) 31(-3.5,-7.6) 32(-3,-7.6) 33(-2.5,-7.6) 34(-2,-7.6) 35(-1.5,-7.6) 36(-1,-7.6) 37(-0.5,-7.6) 38(0,-7.6) 39(0.5,-7.6) 40(1,-7.6) 41(1.5,-7.6) 42(2,-7.6) 43(2.5,-7.6) 44(3,-7.6) 45(3.5,-7.6) 46(4,-7.6) 47(4.5,-7.6) 48(5,-7.6) 49(5.5,-7.6) 50(6,-7.6) 76(6,7.6) 77(5.5,7.6) 78(5,7.6) 79(4.5,7.6) 80(4,7.6) 81(3.5,7.6) 82(3,7.6) 83(2.5,7.6) 84(2,7.6) 85(1.5,7.6) 86(1,7.6) 87(0.5,7.6) 88(0,7.6) 89(-0.5,7.6) 90(-1,7.6) 91(-1.5,7.6) 92(-2,7.6) 93(-2.5,7.6) 94(-3,7.6) 95(-3.5,7.6) 96(-4,7.6) 97(-4.5,7.6) 98(-5,7.6) 99(-5.5,7.6) 100(-6,7.6)
Top Overlay:
  circle w0.6: c-5.15,5.15 r0.3
  circle w0.25: c-7.6,6.7 r0.125
  lines w0.2: -6.15,-6.15 6.15,-6.15 6.15,6.15 -6.15,6.15 -6.15,-6.15
Mechanical 13:
  circle w0.1: c-6.1,6.1 r0.5
  lines w0.1: -7,-7 7,-7 7,7 -7,7 -7,-7
Mechanical 15:
  lines w0.1: -0.5,0 0.5,0 ; 0,-0.5 0,0.5 ; -9.15,-9.15 9.15,-9.15 9.15,9.15 -9.15,9.15 -9.15,-9.15
3D body: height 1.6, standoff 0, extent -7,-7 7,7